# Altium footprint library TO-220(TO-220-3).PcbLib: 1 footprints
Each footprint in its own frame and in the unit in brackets; x right, y up, seen from the top. Pads: shape width x height; smd on the part's side, far side on the other; paste and mask are expansions set on the pad; w line width, h text height; cw(c..) or ccw(c..) is an arc to the next point about the centre after c.
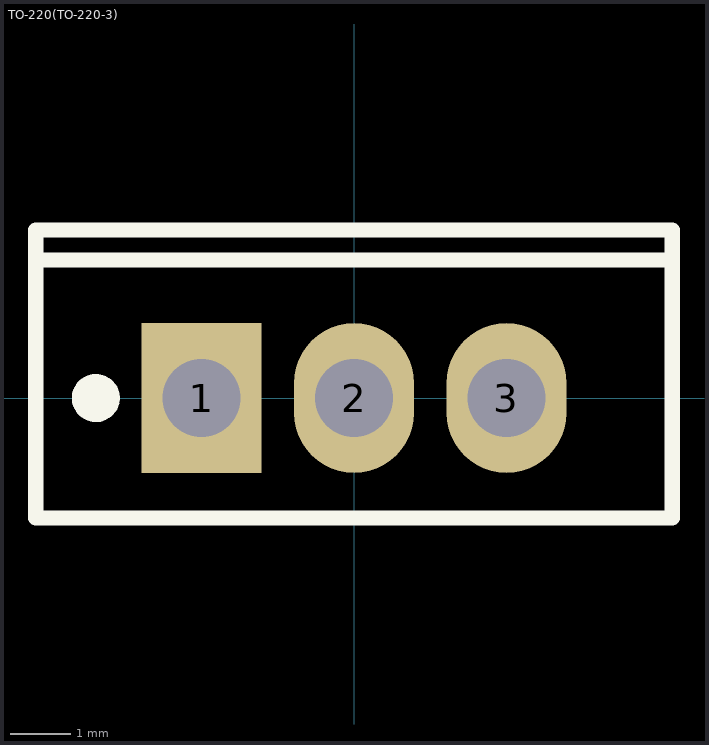
[diagram p0: the footprint, top view; thin cyan lines are the x and y axes]

## TO-220(TO-220-3) [mm]
pads (3):
  rect 2x2.5 hole 1.3: 1(-2.54,0)
  oval 2x2.5 hole 1.3: 2(0,0) 3(2.54,0)
Top Overlay:
  circle w0.4: c-4.3,0 r0.2
  lines w0.254: -5.3,2.3 5.3,2.3 ; -5.3,-2 5.3,-2 5.3,2.8 -5.3,2.8 -5.3,-2
3D body: height 19.6, standoff -8.87, extent -5.08,-1.451 5.08,2.9